# Altium footprint library CAPPRD500W60D1250H2200.PcbLib: 1 footprints
Each footprint in its own frame and in the unit in brackets; x right, y up, seen from the top. Pads: shape width x height; smd on the part's side, far side on the other; paste and mask are expansions set on the pad; w line width, h text height; cw(c..) or ccw(c..) is an arc to the next point about the centre after c.
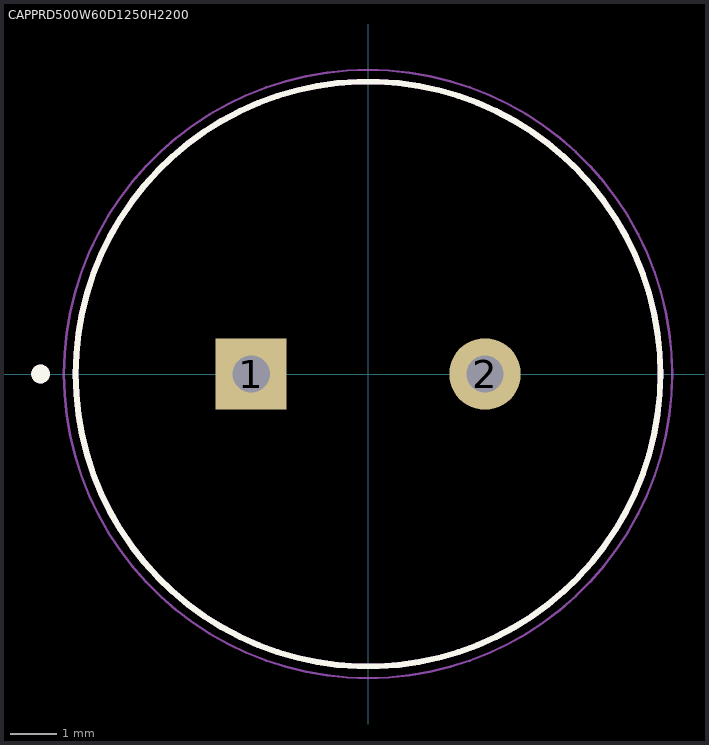
[diagram p0: the footprint, top view; thin cyan lines are the x and y axes]

## CAPPRD500W60D1250H2200 [mil]
pads (2):
  rect 60x60 hole 31.5: 1(-98.43,0)
  round 60 hole 31.5: 2(98.43,0)
Top Overlay:
  circle w7.87: c-275.59,0 r3.94
  circle w5: c0,0 r246.06
Mechanical 13:
  circle w7.87: c-275.59,0 r3.94
  circle w5: c0,0 r246.06
Mechanical 15:
  circle w1.97: c0,0 r255.91
3D body "step_temp.STEP": height 866.14, standoff -787.4, extent -246.07,-246.06 246.06,246.07